# EAGLE library part CD4511 (library Tinkercad)
BCD to 7-segment Latch/Decoder/Driver Reference Datasheet <https://www.ti.com/lit/ds/symlink/cd4511b.pdf>
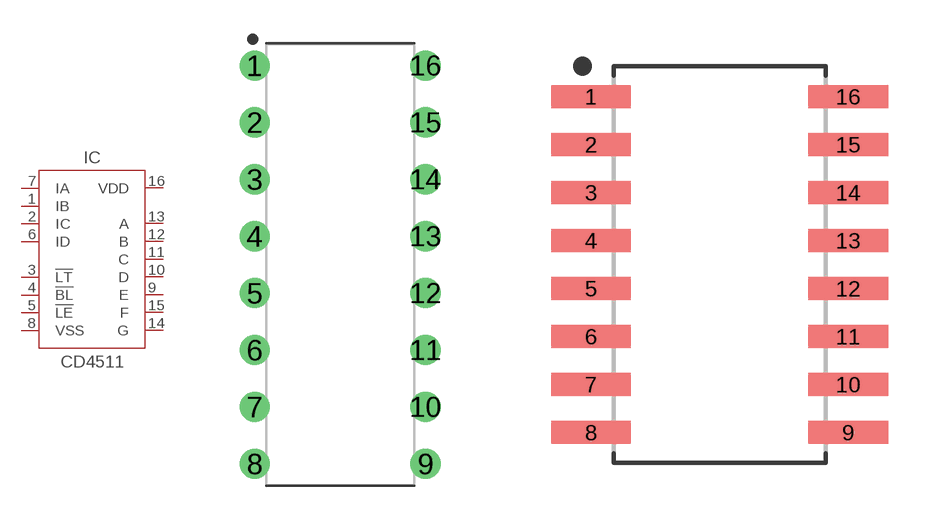
[diagram p41: symbol with the pads of DIP762W53P254L1969H508Q16B; footprints DIP762W53P254L1969H508Q16B, SOIC127P780X200-16N]

Designator prefix IC

## CD4511_PDIP  [DIP762W53P254L1969H508Q16B]
1  IB  in
2  IC  in
3  !LT  in
4  !BL  in
5  !LE  in
6  ID  in
7  IA  in
8  VSS
9  E  out
10  D  out
11  C  out
12  B  out
13  A  out
14  G  out
15  F  out
16  VDD

## CD4511_SOIC  [SOIC127P780X200-16N]
Pads as for DIP762W53P254L1969H508Q16B

## Footprint DIP762W53P254L1969H508Q16B (pad centres in mm)
16-DIP, 2.54 mm (0.10 in) pitch, 7.62 mm (0.30 in) span, 19.69 X 6.6 X 5.08 mm body 16-pin DIP package with 2.54 mm (0.10 in) pitch, 7.62 mm (0.30 in) span with body size 19.69 X 6.6 X 5.08 mm
drill 0.743 pad 1.343: 1 -3.81,8.89; 2 -3.81,6.35; 3 -3.81,3.81; 4 -3.81,1.27; 5 -3.81,-1.27; 6 -3.81,-3.81; 7 -3.81,-6.35; 8 -3.81,-8.89; 9 3.81,-8.89; 10 3.81,-6.35; 11 3.81,-3.81; 12 3.81,-1.27; 13 3.81,1.27; 14 3.81,3.81; 15 3.81,6.35; 16 3.81,8.89

## Footprint SOIC127P780X200-16N (pad centres in mm)
16-SOIC, 1.27 mm pitch, 7.80 mm span, 10.20 X 5.30 X 2.00 mm body 16-pin SOIC package with 1.27 mm pitch, 7.80 mm span with body size 10.20 X 5.30 X 2.00 mm
smd 2.108 x 0.605: 1 -3.4,4.445; 2 -3.4,3.175; 3 -3.4,1.905; 4 -3.4,0.635; 5 -3.4,-0.635; 6 -3.4,-1.905; 7 -3.4,-3.175; 8 -3.4,-4.445; 9 3.4,-4.445; 10 3.4,-3.175; 11 3.4,-1.905; 12 3.4,-0.635; 13 3.4,0.635; 14 3.4,1.905; 15 3.4,3.175; 16 3.4,4.445